# EAGLE library part SN65HVD32_D_8 (library SN65HVD32)
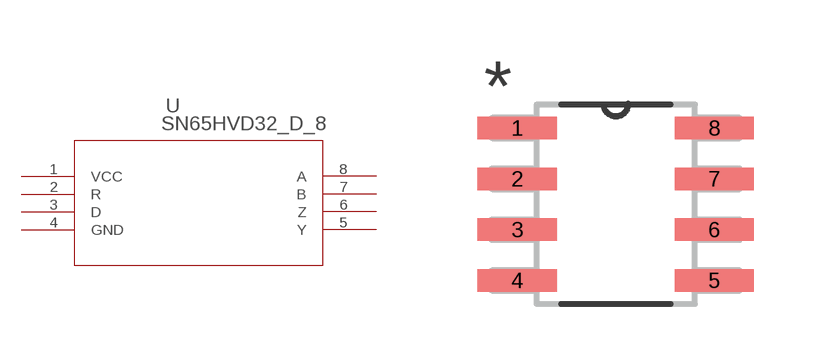
[diagram p0: symbol with the pads of D8; footprint D8]

Designator prefix U

## SN65HVD32_D_8 (DATASHEETURL: httpwww.ti.comlitgpnSN65HVD32; FAMILY_NAME: RS485; GENERIC_PART_NUMBER: SN65HVD32; INDUSTRY_STD_PKG_TYPE: SOIC; MANUFACTURER: Texas Instruments; MANUFACTURER_PART_NUMBER: sn65hvd32_d_8; PACKAGE_DESIGNATOR: D; PIN_COUNT: 8; VENDOR: Texas Instruments)  [D8]
1  VCC  pwr
2  R  in
3  D  in
4  GND  pwr
5  Y  out
6  Z  out
7  B  out
8  A  out

## Footprint D8 (pad centres in mm)
smd 1.981 x 0.559: 1 -2.464,1.905; 2 -2.464,0.635; 3 -2.464,-0.635; 4 -2.464,-1.905; 5 2.464,-1.905; 6 2.464,-0.635; 7 2.464,0.635; 8 2.464,1.905